# Altium schematic symbol library MC34063ADR2G.Schlib: 1 symbol
Pins are listed as number, name and electrical type; pins without a type are passive.

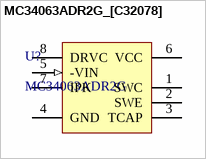
[diagram p0: symbol MC34063ADR2G_[C32078]]

## MC34063ADR2G_[C32078]
designator U?, comment MC34063ADR2G
DC-DC芯片
footprint SOIC-8_150mil
pins: 1 SWC (oc), 2 SWE (oe), 3 TCAP, 4 GND (power), 5 -VIN (in), 6 VCC (power), 7 IPK, 8 DRVC (oc)